# Altium integrated library Radiator_26х92х280_ТО-264х12.IntLib: 1 symbol
Pins are listed as number, name and electrical type; pins without a type are passive.

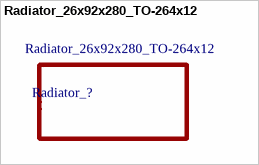
[diagram p0: symbol Radiator_26х92х280_ТО-264х12]

## Radiator_26х92х280_ТО-264х12
designator Radiator_?
footprint Radiator_26х92х280_ТО-264х12